# Altium footprint library Silkscreen.PcbLib: 1 footprints
Each footprint in its own frame and in the unit in brackets; x right, y up, seen from the top. Pads: shape width x height; smd on the part's side, far side on the other; paste and mask are expansions set on the pad; w line width, h text height; cw(c..) or ccw(c..) is an arc to the next point about the centre after c.
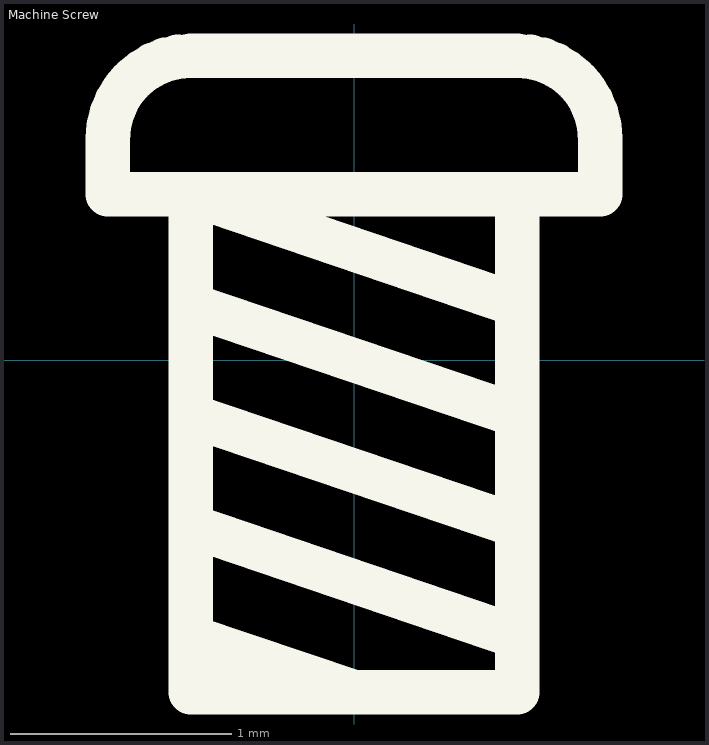
[diagram p0: the footprint, top view; thin cyan lines are the x and y axes]

## Machine Screw [mm] "Machine Screw Graphic"
Top Overlay:
  lines w0.2: -0.737,-0.75 0.737,-1.25 ; -0.737,-0.25 0.737,-0.75 ; -0.737,0.25 0.737,-0.25 ; -0.7,-1.4 -0.738,-1.362 -0.738,-1.25 0,-1.5 ; 0.737,0.25 -0.737,0.75 -0.737,-1.5 0.737,-1.5 0.737,0.75 ; -1.112,0.75 1.112,0.75 1.112,1 ccw(c0.737,1) 0.737,1.375 -0.738,1.375 ccw(c-0.738,1) -1.112,1 -1.112,0.75